# EAGLE library part MAX4173 (library pyIMU_GPS)
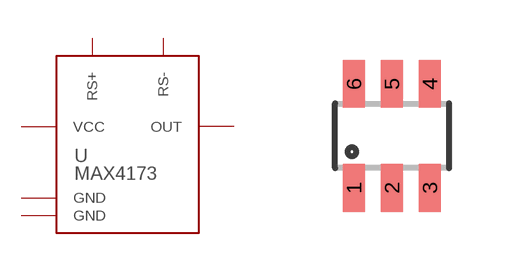
[diagram p2: symbol with the pads of SOT23-6L; footprint SOT23-6L]

Designator prefix U

## MAX4173  [SOT23-6L]
1  GND  pwr
2  GND  pwr
3  VCC  pwr
4  RS+  in
5  RS-  in
6  OUT  out

## Footprint SOT23-6L (pad centres in mm)
smd 0.55 x 1.2: 1 -0.95,-1.3; 2 0,-1.3; 3 0.95,-1.3; 4 0.95,1.3; 5 0,1.3; 6 -0.95,1.3